# EAGLE library part MIC4605 (library ElcPartsLibrary)
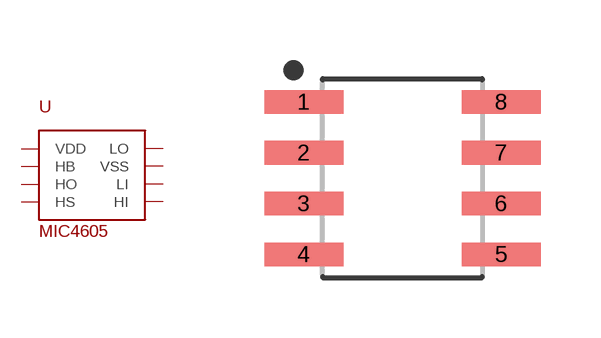
[diagram p13: symbol with the pads of SOIC127P599X173-8N; footprint SOIC127P599X173-8N]

Designator prefix -

## MIC46051YM  [SOIC127P599X173-8N]
1  VDD  pwr
2  HB
3  HO
4  HS
5  HI
6  LI
7  VSS  pwr
8  LO

## Footprint SOIC127P599X173-8N (pad centres in mm)
8-SOIC, 1.27 mm pitch, 5.99 mm span, 4.89 X 3.90 X 1.73 mm body 8-pin SOIC package with 1.27 mm pitch, 5.99 mm span with body size 4.89 X 3.90 X 1.73 mm
smd 1.976 x 0.589: 1 -2.469,1.905; 2 -2.469,0.635; 3 -2.469,-0.635; 4 -2.469,-1.905; 5 2.469,-1.905; 6 2.469,-0.635; 7 2.469,0.635; 8 2.469,1.905